# Altium schematic symbol library Schlib1.SchLib: 46 symbols
Pins are listed as number, name and electrical type; pins without a type are passive.

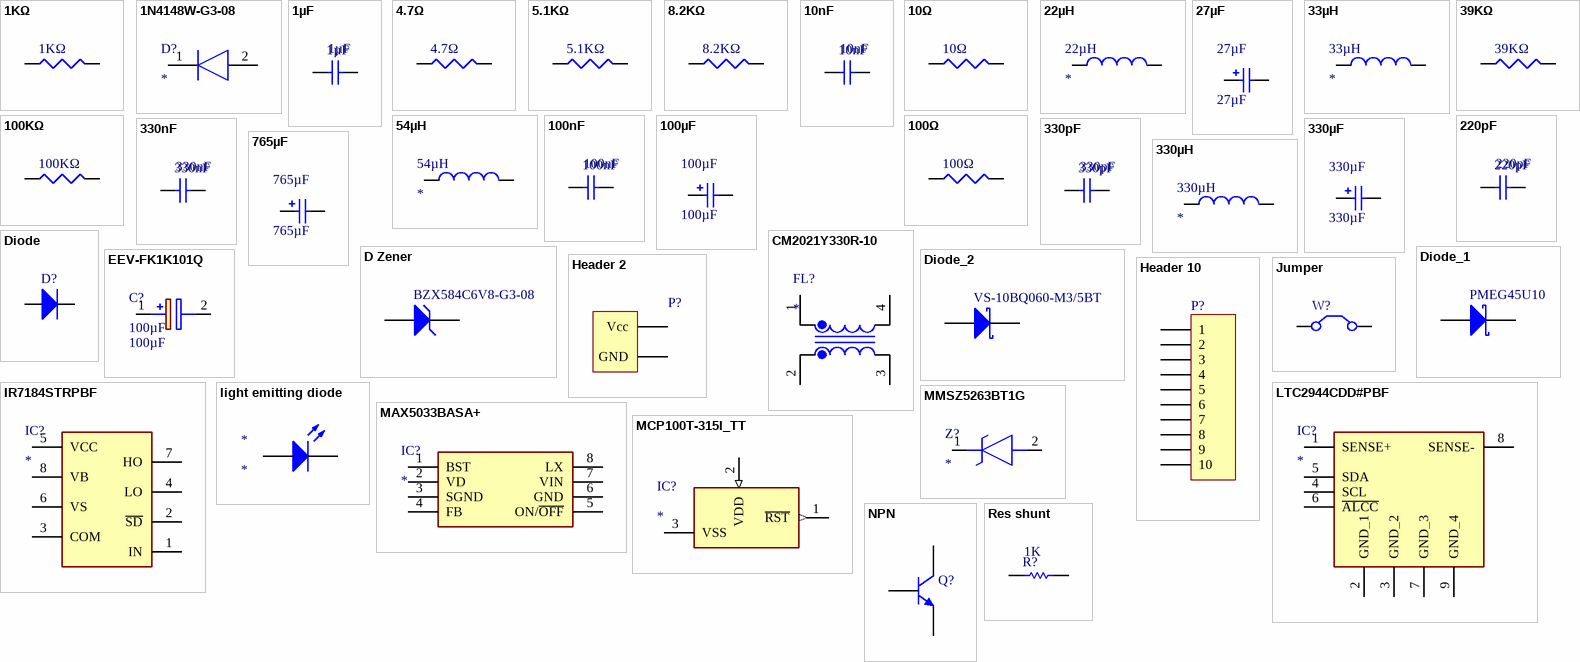
[diagram p0: symbols 1KΩ to Res shunt]

## 1KΩ
designator 1KΩ
Resistor; Published: 8-Jun-2000; LatestRevisionDate: 29-May-2009; LatestRevisionNote: IPC-7351 Footprint Added.; PackageReference: J1-0603; Publisher: Altium Limited; PackageDescription: Chip Resistor; supplier: farnell
footprint RESC3216X75N
pins: 1, 2

## 1N4148W-G3-08
designator D?
Diode; Manufacturer_Name: Vishay; Manufacturer_Part_Number: 1N4148W-G3-08; Datasheet Link: https://componentsearchengine.com/Datasheets/1/1N4148W-G3-08.pdf; Height: 1.35mm; Mouser Part Number: 78-1N4148W-G3-08; Mouser Price/Stock: https://www.mouser.co.uk/ProductDetail/Vishay-Semiconductors/1N4148W-G3-08?qs=uS%252BVSIFnvp46StDBB15x4Q%3D%3D; Arrow Part Number: 1N4148W-G3-08; Arrow Price/Stock: https://www.arrow.com/en/products/1n4148w-g3-08/vishay
footprint SOD3716X135N
pins: 1 K, 2 A

## 1µF
designator 1µF  value 1µF
Capacitor; Published: 8-Jun-2000; LatestRevisionDate: 17-Jul-2002; LatestRevisionNote: Re-released for DXP Platform.; PackageReference: RAD-0.3; Publisher: Altium Limited; PackageDescription: Radial Cap, Thru-Hole; 2 Leads; 0.3 in Pin Spacing
footprint CAPC3216X180N
pins: 1, 2

## 4.7Ω
designator 4.7Ω
Resistor; Published: 8-Jun-2000; LatestRevisionDate: 29-May-2009; LatestRevisionNote: IPC-7351 Footprint Added.; PackageReference: J1-0603; Publisher: Altium Limited; PackageDescription: Chip Resistor
footprint RESC3216X75N
pins: 1, 2

## 5.1KΩ
designator 5.1KΩ
Resistor; Published: 8-Jun-2000; LatestRevisionDate: 29-May-2009; LatestRevisionNote: IPC-7351 Footprint Added.; PackageReference: J1-0603; Publisher: Altium Limited; PackageDescription: Chip Resistor
footprint RESC3216X75N
pins: 1, 2

## 8.2KΩ
designator 8.2KΩ
Resistor; Published: 8-Jun-2000; LatestRevisionDate: 29-May-2009; LatestRevisionNote: IPC-7351 Footprint Added.; PackageReference: J1-0603; Publisher: Altium Limited; PackageDescription: Chip Resistor
footprint RESC3216X75N
pins: 1, 2

## 10nF
designator 10nF  value 10nF
Capacitor; Published: 8-Jun-2000; LatestRevisionDate: 17-Jul-2002; LatestRevisionNote: Re-released for DXP Platform.; PackageReference: RAD-0.3; Publisher: Altium Limited; PackageDescription: Radial Cap, Thru-Hole; 2 Leads; 0.3 in Pin Spacing
footprint CAPC3216X180N
pins: 1, 2

## 10Ω
designator 10Ω
Resistor; Published: 8-Jun-2000; LatestRevisionDate: 29-May-2009; LatestRevisionNote: IPC-7351 Footprint Added.; PackageReference: J1-0603; Publisher: Altium Limited; PackageDescription: Chip Resistor
footprint RESC3216X75N
pins: 1, 2

## 22µH
designator 22µH
power inductor
footprint INDPM6965X300N
pins: 1, 2

## 27µF
designator 27µF  value 27µF  (hidden comment: *)
Capacitor Polarised; Manufacturer_Name: Panasonic; Manufacturer_Part_Number: EEV-FK1K101V; Datasheet Link: http://industrial.panasonic.com/cdbs/www-data/pdf/RDE0000/ABA0000C1181.pdf; Height: 14.3mm; Mouser Part Number: 667-EEV-FK1K101V; Mouser Price/Stock: https://www.mouser.co.uk/ProductDetail/Panasonic/EEV-FK1K101V?qs=MtOUKumLmnbTFvRMlB7%2FdA%3D%3D
footprint EEE0JA471UAP
pins: 1, 2

## 33µH
designator 33µH
power inductor
footprint INDPM125125X850N
pins: 1, 2

## 39KΩ
designator 39KΩ
Resistor; Published: 8-Jun-2000; LatestRevisionDate: 29-May-2009; LatestRevisionNote: IPC-7351 Footprint Added.; PackageReference: J1-0603; Publisher: Altium Limited; PackageDescription: Chip Resistor; supplier: farnell
footprint RESC3216X75N
pins: 1, 2

## 54µH
designator 54µH
power inductor
footprint SHBC201R7A0152V
pins: 1, 2

## 100KΩ
designator 100KΩ
Resistor; Published: 8-Jun-2000; LatestRevisionDate: 29-May-2009; LatestRevisionNote: IPC-7351 Footprint Added.; PackageReference: J1-0603; Publisher: Altium Limited; PackageDescription: Chip Resistor
footprint RESC3216X75N
pins: 1, 2

## 100nF
designator 100nF  value 100nF
Capacitor; Published: 8-Jun-2000; LatestRevisionDate: 17-Jul-2002; LatestRevisionNote: Re-released for DXP Platform.; PackageReference: RAD-0.3; Publisher: Altium Limited; PackageDescription: Radial Cap, Thru-Hole; 2 Leads; 0.3 in Pin Spacing
footprint CAPC3216X180N
pins: 1, 2

## 100µF
designator 100µF  value 100µF  (hidden comment: *)
Capacitor Polarised; Manufacturer_Name: Panasonic; Manufacturer_Part_Number: EEV-FK1K101V; Datasheet Link: http://industrial.panasonic.com/cdbs/www-data/pdf/RDE0000/ABA0000C1181.pdf; Height: 14.3mm; Mouser Part Number: 667-EEV-FK1K101V; Mouser Price/Stock: https://www.mouser.co.uk/ProductDetail/Panasonic/EEV-FK1K101V?qs=MtOUKumLmnbTFvRMlB7%2FdA%3D%3D
footprint EEE0JA471UAP
pins: 1, 2

## 100Ω
designator 100Ω
Resistor; Published: 8-Jun-2000; LatestRevisionDate: 29-May-2009; LatestRevisionNote: IPC-7351 Footprint Added.; PackageReference: J1-0603; Publisher: Altium Limited; PackageDescription: Chip Resistor
footprint RESC3216X75N
pins: 1, 2

## 220pF
designator 220pF  value 220pF
Capacitor; Published: 8-Jun-2000; LatestRevisionDate: 17-Jul-2002; LatestRevisionNote: Re-released for DXP Platform.; PackageReference: RAD-0.3; Publisher: Altium Limited; PackageDescription: Radial Cap, Thru-Hole; 2 Leads; 0.3 in Pin Spacing
footprint CAPC3216X180N
pins: 1, 2

## 330nF
designator 330nF  value 330nF
Capacitor; Published: 8-Jun-2000; LatestRevisionDate: 17-Jul-2002; LatestRevisionNote: Re-released for DXP Platform.; PackageReference: RAD-0.3; Publisher: Altium Limited; PackageDescription: Radial Cap, Thru-Hole; 2 Leads; 0.3 in Pin Spacing
footprint CAPC3216X180N
pins: 1, 2

## 330pF
designator 330pF  value 330pF
Capacitor; Published: 8-Jun-2000; LatestRevisionDate: 17-Jul-2002; LatestRevisionNote: Re-released for DXP Platform.; PackageReference: RAD-0.3; Publisher: Altium Limited; PackageDescription: Radial Cap, Thru-Hole; 2 Leads; 0.3 in Pin Spacing
footprint CAPC3216X180N
pins: 1, 2

## 330µF
designator 330µF  value 330µF  (hidden comment: *)
Capacitor Polarised; Manufacturer_Name: Panasonic; Manufacturer_Part_Number: EEV-FK1K101V; Datasheet Link: http://industrial.panasonic.com/cdbs/www-data/pdf/RDE0000/ABA0000C1181.pdf; Height: 14.3mm; Mouser Part Number: 667-EEV-FK1K101V; Mouser Price/Stock: https://www.mouser.co.uk/ProductDetail/Panasonic/EEV-FK1K101V?qs=MtOUKumLmnbTFvRMlB7%2FdA%3D%3D
footprint EEE0JA471UAP
pins: 1, 2

## 330µH
designator 330µH
power inductor
footprint B82462G4
pins: 1, 2

## 765µF
designator 765µF  value 765µF  (hidden comment: *)
Capacitor Polarised; Manufacturer_Name: Panasonic; Manufacturer_Part_Number: EEV-FK1K101V; Datasheet Link: http://industrial.panasonic.com/cdbs/www-data/pdf/RDE0000/ABA0000C1181.pdf; Height: 14.3mm; Mouser Part Number: 667-EEV-FK1K101V; Mouser Price/Stock: https://www.mouser.co.uk/ProductDetail/Panasonic/EEV-FK1K101V?qs=MtOUKumLmnbTFvRMlB7%2FdA%3D%3D
footprint EEE0JA471UAP
pins: 1, 2

## CM2021Y330R-10
designator FL?
Filter; Manufacturer_Name: Laird-Signal Integrity Products; Manufacturer_Part_Number: CM2021Y330R-10; Datasheet Link: http://assets.lairdtech.com/home/brandworld/files/CM2021Y330R-10.pdf; Height: 3.8mm
footprint CM2021Y330R10
pins: 1, 2, 3, 4

## D Zener
designator BZX584C6V8-G3-08
Zener Diode / BZX584C6V8-G3-08; Published: 8-Jun-2000; LatestRevisionDate: 17-Jul-2002; LatestRevisionNote: Re-released for DXP Platform.; PackageReference: DIODE-0.7; Publisher: Altium Limited; PackageDescription: Diode, Thru-Hole; 2 Leads; 0.7 in Pin Spacing
footprint SOT95P230X110-3N
pins: 1 A, 2 K

## Diode
designator D?
Default Diode; Published: 8-Jun-2000; LatestRevisionDate: 17-Jul-2002; LatestRevisionNote: Re-released for DXP Platform.; PackageVersion: Sep-1996; PackageReference: SMC; Publisher: Altium Limited; PackageDescription: DO-214-AB/SMC; 2 C-Bend Leads; Body 7.9 x 5.9 mm, inc. leads (LxW); Code_JEDEC: DO-214-AB
footprint DIOM5436X244N
pins: 1 A, 2 K

## Diode_1
designator PMEG45U10
Schottky Rectifier / PMEG45U10; Note: Terminal 2 is the TAB and is electrically connected to the cathode; Published: 8-Jun-2000; LatestRevisionDate: 17-Jul-2002; LatestRevisionNote: Re-released for DXP Platform.; DatasheetVersion: PD-2.057B; PackageVersion: Feb-1998; PackageReference: TO-220AC; Publisher: Altium Limited; PackageDescription: TO, Thru-Hole, Vertical, Heatsink Mounted; 3 In-Line Leads (1 Absent); Pitch 2.54 mm; ComponentLink1Description: Manufacturer Link; ComponentLink1URL: http://www.irf.com/; ComponentLink2Description: Datasheet; ComponentLink2URL: http://www.irf.com/product-info/datasheets/data/10tq.pdf
footprint PMEG45U10
pins: 1 K, 3 A

## Diode_2
designator VS-10BQ060-M3/5BT
Schottky Rectifier / VS-10BQ060-M3/5BT; Note: Terminal 2 is the TAB and is electrically connected to the cathode; Published: 8-Jun-2000; LatestRevisionDate: 17-Jul-2002; LatestRevisionNote: Re-released for DXP Platform.; DatasheetVersion: PD-2.057B; PackageVersion: Feb-1998; PackageReference: TO-220AC; Publisher: Altium Limited; PackageDescription: TO, Thru-Hole, Vertical, Heatsink Mounted; 3 In-Line Leads (1 Absent); Pitch 2.54 mm; ComponentLink1Description: Manufacturer Link; ComponentLink1URL: http://www.irf.com/; ComponentLink2Description: Datasheet; ComponentLink2URL: http://www.irf.com/product-info/datasheets/data/10tq.pdf
footprint DIOM5436X244N
pins: 1 K, 3 A

## EEV-FK1K101Q
designator C?, comment 100µF
Capacitor Polarised; Manufacturer_Name: Panasonic; Manufacturer_Part_Number: EEV-FK1K101Q; Datasheet Link: http://industrial.panasonic.com/cdbs/www-data/pdf/RDE0000/ABA0000C1181.pdf; Height: 15mm; Mouser Part Number: 667-EEV-FK1K101Q; Mouser Price/Stock: https://www.mouser.co.uk/ProductDetail/Panasonic/EEV-FK1K101Q?qs=E4hy2mN5dtmkz2M2wNGN2w%3D%3D; Arrow Part Number: EEV-FK1K101Q; Arrow Price/Stock: https://www.arrow.com/en/products/eev-fk1k101q/panasonic; Value: 100µF
footprint EEEFK0J332AQ
pins: 1 +, 2 -

## Header 2
designator P?
Header, 2-Pin; LatestRevisionDate: 17-Jul-2002; LatestRevisionNote: Re-released for DXP Platform.; Publisher: Altium Limited
footprint HDR1X2 (Connector; Header; 2 Position)
pins: ?1 Vcc, ?2 GND

## Header 10
designator P?
Header, 10-Pin; LatestRevisionDate: 17-Jul-2002; LatestRevisionNote: Re-released for DXP Platform.; Publisher: Altium Limited
footprint HDR1X10 (Connector; Header; 10 Position)
pins: 1, 2, 3, 4, 5, 6, 7, 8, 9, 10

## IR7184STRPBF
designator IC?
Integrated Circuit; Manufacturer_Name: Infineon; Manufacturer_Part_Number: IR7184STRPBF; Datasheet Link: https://componentsearchengine.com/Datasheets/1/IR7184STRPBF.pdf; Height: 1.75mm; Mouser Part Number: 942-IR7184STRPBF; Mouser Price/Stock: https://www.mouser.com/Search/Refine.aspx?Keyword=942-IR7184STRPBF; Arrow Part Number: IR7184STRPBF; Arrow Price/Stock: https://www.arrow.com/en/products/ir7184strpbf/infineon-technologies-ag
footprint SOIC127P600X175-8N (Footprint not found)
pins: 1 IN, 2 ~{SD}, 3 COM, 4 LO, 5 VCC, 6 VS, 7 HO, 8 VB

## Jumper
designator W?
Jumper Wire; Published: 24-Mar-1999; LatestRevisionDate: 17-Jul-2002; LatestRevisionNote: Re-released for DXP Platform.; PackageReference: RAD-0.2; Publisher: Altium Limited; PackageDescription: Radial Cap, Thru-Hole; 2 Leads; 0.2 in Pin Spacing
footprint RAD-0.2 (Radial Cap, Thru-Hole; 2 Leads; 0.2 in Pin Spacing)
pins: 1 C1, 2 C2

## light emitting diode
designator *
footprint LEDM3216X78N
pins: 69, 69

## LTC2944CDD#PBF
designator IC?
Integrated Circuit; Manufacturer_Name: Analog Devices; Manufacturer_Part_Number: LTC2944CDD#PBF; Datasheet Link: https://www.analog.com/media/en/technical-documentation/data-sheets/2944fa.pdf; Height: 0.8mm; Mouser Part Number: 584-LTC2944CDDPBF; Mouser Price/Stock: https://www.mouser.co.uk/ProductDetail/Analog-Devices/LTC2944CDDPBF?qs=u4fy%2FsgLU9Omd44j%252B6inEQ%3D%3D; Arrow Part Number: LTC2944CDD#PBF; Arrow Price/Stock: https://www.arrow.com/en/products/ltc2944cddpbf/analog-devices
footprint SON50P300X300X80-9N-D (Footprint not found)
pins: 1 SENSE+, 2 GND_1, 3 GND_2, 4 SCL, 5 SDA, 6 ~{ALCC}, 7 GND_3, 8 SENSE-, 9 GND_4

## MAX5033BASA+
designator IC?
Integrated Circuit; Manufacturer_Name: Maxim Integrated; Manufacturer_Part_Number: MAX5033BASA+; Datasheet Link: http://datasheets.maximintegrated.com/en/ds/MAX5033.pdf; Height: 1.75mm; Mouser Part Number: 700-MAX5033BASA; Mouser Price/Stock: https://www.mouser.co.uk/ProductDetail/Maxim-Integrated/MAX5033BASA%2b?qs=Mqkh4jHMT8yAY9iARDroCQ%3D%3D
footprint SOIC127P600X175-8N
pins: 1 BST, 2 VD, 3 SGND, 4 FB, 5 ON/~{OFF}, 6 GND, 7 VIN, 8 LX

## MCP100T-315I_TT
designator IC?
Integrated Circuit; Manufacturer_Name: Microchip; Manufacturer_Part_Number: MCP100T-315I/TT; Datasheet Link: http://docs-emea.rs-online.com/webdocs/0d03/0900766b80d034b8.pdf; Height: 1.12mm; Mouser Part Number: 579-MCP100T-315I/TT; Mouser Price/Stock: https://www.mouser.co.uk/ProductDetail/Microchip-Technology/MCP100T-315I-TT?qs=cQYLKLPzRJnnE4Sa6znIFg%3D%3D; Arrow Part Number: MCP100T-315I/TT; Arrow Price/Stock: https://www.arrow.com/en/products/mcp100t-315itt/microchip-technology?region=nac
footprint SOT96P237X112-3N
pins: 1 ~{RST} (out), 2 VDD (in), 3 VSS

## MMSZ5263BT1G
designator Z?
Zener Diode; Manufacturer_Name: ON Semiconductor; Manufacturer_Part_Number: MMSZ5263BT1G; Datasheet Link: http://www.onsemi.com/pub/Collateral/MMSZ5221BT1-D.PDF; Height: 1.35mm; Mouser Part Number: 863-MMSZ5263BT1G; Mouser Price/Stock: https://www.mouser.co.uk/ProductDetail/onsemi/MMSZ5263BT1G?qs=ZpPixqFcBtxaamSEBIiIIg%3D%3D; Arrow Part Number: MMSZ5263BT1G; Arrow Price/Stock: https://www.arrow.com/en/products/mmsz5263bt1g/on-semiconductor?region=nac
footprint SOD3716X135N
pins: 1 K, 2 A

## NPN
designator Q?
NPN Bipolar Transistor; Published: 8-Jun-2000; LatestRevisionDate: 17-Jul-2002; LatestRevisionNote: Re-released for DXP Platform.; PackageReference: TO-226-AA; Publisher: Altium Limited; PackageDescription: TO, Flat Index; 3 In-Line, Axial Leads; Body Dia. 4.8mm; Leads 0.55 x 0.51 mm (max); Code_JEDEC: TO-226-AA
footprint SOT96P237X111-3N
pins: 1 C, 2 B, 3 E

## Res shunt
designator R?  value 1K
Resistor; Published: 8-Jun-2000; LatestRevisionDate: 17-Jul-2002; LatestRevisionNote: Re-released for DXP Platform.; PackageReference: AXIAL-0.3; Publisher: Altium Limited; PackageDescription: Axial Device, Thru-Hole; 2 Leads; 0.3 in Pin Spacing
footprint CAPC2012X94N
pins: 1, 2

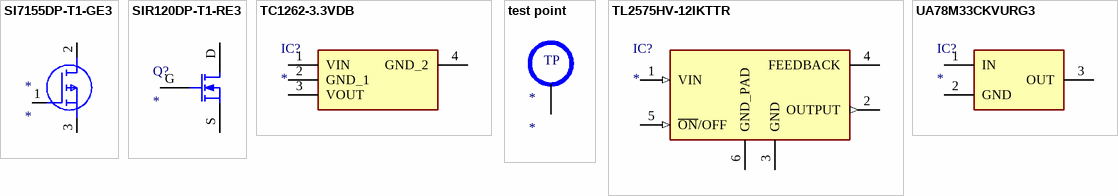
[diagram p1: symbols SI7155DP-T1-GE3 to UA78M33CKVURG3]

## SI7155DP-T1-GE3
designator *
MOSFET (P-Channel)
footprint SI7141DPT1GE3
pins: 1 G, 2 D, 3 S

## SIR120DP-T1-RE3
designator Q?
MOSFET (N-Channel); Manufacturer_Name: Vishay; Manufacturer_Part_Number: SIR120DP-T1-RE3; Datasheet Link: http://www.vishay.com/docs/79731/sir120dp.pdf; Mouser Part Number: 78-SIR120DP-T1-RE3; Mouser Price/Stock: https://www.mouser.co.uk/ProductDetail/Vishay-Semiconductors/SIR120DP-T1-RE3?qs=UkDUCjYnTB3xEXzKpvDZuA%3D%3D; Arrow Part Number: SIR120DP-T1-RE3; Arrow Price/Stock: https://www.arrow.com/en/products/sir120dp-t1-re3/vishay
footprint SI7141DPT1GE3
pins: D, G, S

## TC1262-3.3VDB
designator IC?
Integrated Circuit; Manufacturer_Name: Microchip; Manufacturer_Part_Number: TC1262-3.3VDB; Datasheet Link: http://ww1.microchip.com/downloads/en/DeviceDoc/21373C.pdf; Height: 1.8mm; Mouser Part Number: 579-TC1262-3.3VDB; Mouser Price/Stock: https://www.mouser.co.uk/ProductDetail/Microchip-Technology/TC1262-33VDB?qs=Jw2w9zrI6w%252BwE14QJIhJFA%3D%3D; Arrow Part Number: TC1262-3.3VDB; Arrow Price/Stock: https://www.arrow.com/en/products/tc1262-3.3vdb/microchip-technology?region=nac
footprint SOT230P700X180-4N (Footprint not found)
pins: 1 VIN, 2 GND_1, 3 VOUT, 4 GND_2

## test point
designator *
footprint Test point
pins: 5
text: TP

## TL2575HV-12IKTTR
designator IC?
Integrated Circuit; Manufacturer_Name: Texas Instruments; Manufacturer_Part_Number: TL2575HV-12IKTTR; Datasheet Link: http://www.ti.com/lit/ds/symlink/tl2575-15.pdf; Height: 5.13mm; Mouser Part Number: 595-TL2575HV-12IKTTR; Mouser Price/Stock: https://www.mouser.co.uk/ProductDetail/Texas-Instruments/TL2575HV-12IKTTR?qs=EnLMdcWnKADDmW7d51Om1g%3D%3D; Arrow Part Number: TL2575HV-12IKTTR; Arrow Price/Stock: https://www.arrow.com/en/products/tl2575hv-12ikttr/texas-instruments?region=nac
footprint TO170P1524X483-6N
pins: 1 VIN (in), 2 OUTPUT (out), 3 GND (power), 4 FEEDBACK, 5 ~{ON}/OFF (in), 6 GND_PAD (power)

## UA78M33CKVURG3
designator IC?
Integrated Circuit; Manufacturer_Name: Texas Instruments; Manufacturer_Part_Number: UA78M33CKVURG3; Datasheet Link: https://www.ti.com/lit/gpn/ua78m?HQS=ti-null-null-sf-df-pf-sep-wwe&DCM=yes; Height: 2.52mm; Mouser Part Number: 595-UA78M33CKVURG3; Mouser Price/Stock: https://www.mouser.co.uk/ProductDetail/Texas-Instruments/UA78M33CKVURG3?qs=0O%2FZFlpUpJXrDg4gfD1Q2g%3D%3D; Arrow Part Number: UA78M33CKVURG3; Arrow Price/Stock: https://www.arrow.com/en/products/ua78m33ckvurg3/texas-instruments
footprint TPS7A6533QKVURQ1
pins: 1 IN, 2 GND, 3 OUT